# Altium footprint library CAN2XG.PcbLib: 27 footprints (part 2 of 2)
Each footprint in its own frame and in the unit in brackets; x right, y up, seen from the top. Pads: shape width x height; smd on the part's side, far side on the other; paste and mask are expansions set on the pad; w line width, h text height; cw(c..) or ccw(c..) is an arc to the next point about the centre after c.
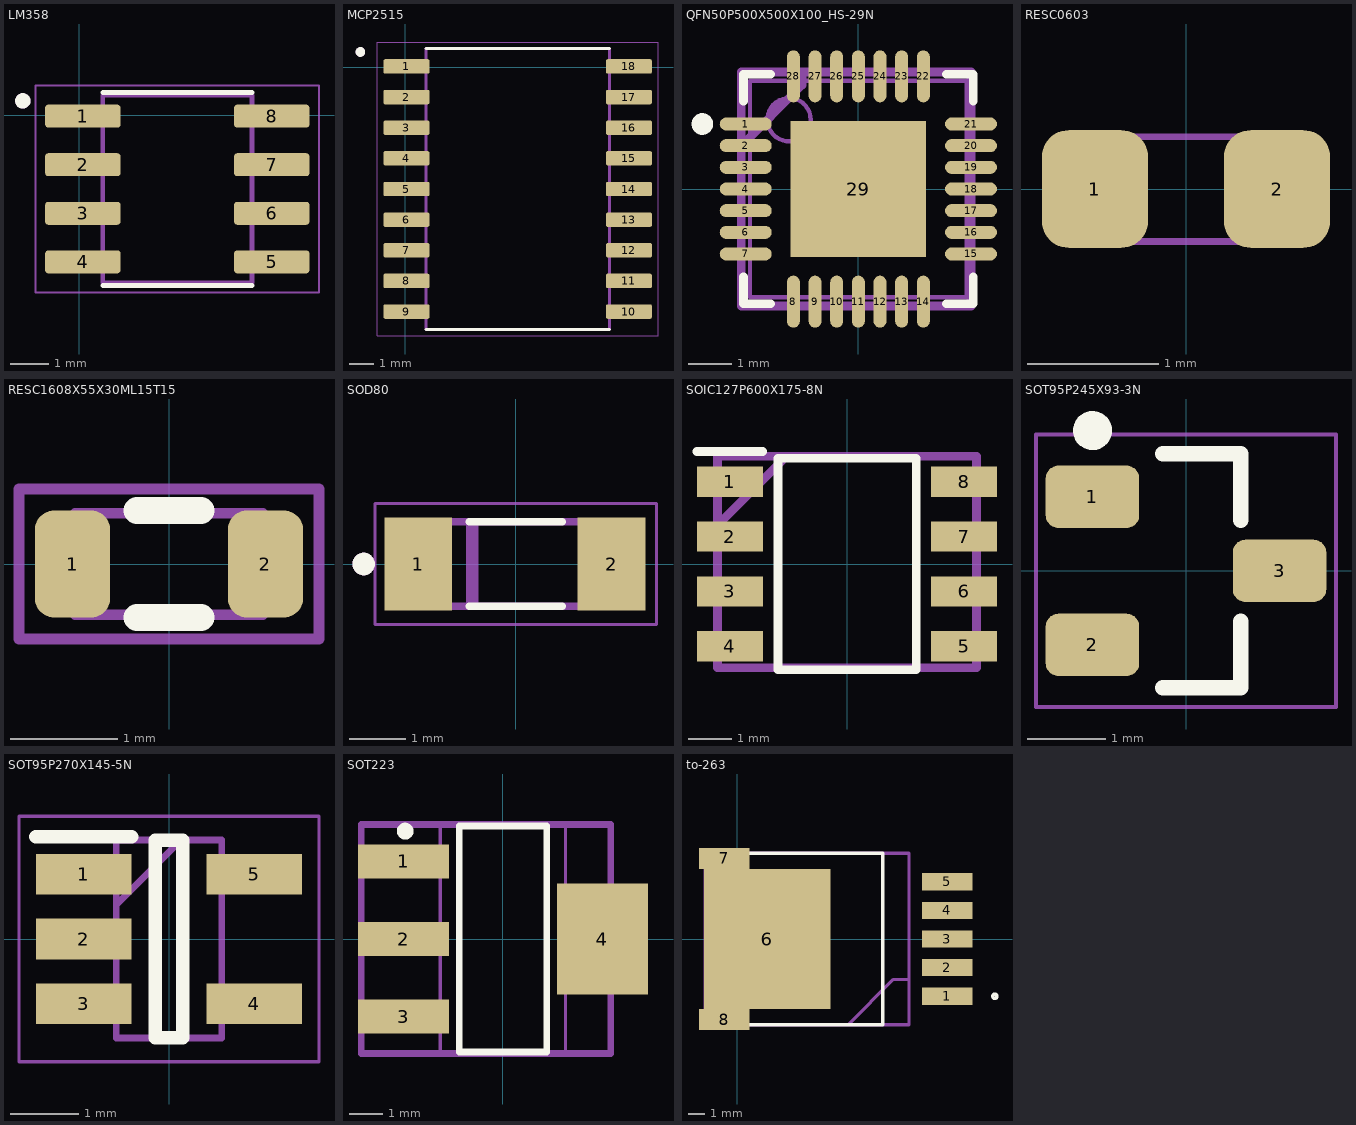
[diagram p1: the footprints below, top view; thin cyan lines are the x and y axes]

## LM358 [mm]
pads (8):
  rrect25% 1.97x0.6 smd: 1(0.098,-0.017) 2(0.098,-1.287) 3(0.098,-2.557) 4(0.098,-3.827) 5(5.038,-3.827) 6(5.038,-2.557) 7(5.038,-1.287) 8(5.038,-0.017)
Top Overlay:
  circle w0.2: c-1.472,0.383 r0.1
  lines w0.127: 0.618,-4.447 4.518,-4.447 ; 0.618,0.603 4.518,0.603
Top Assembly:
  circle w0.2: c-1.472,0.383 r0.1
  lines w0.127: 0.618,-4.375 0.618,0.53 4.518,0.53 4.518,-4.375 0.618,-4.375
Top Courtyard:
  lines w0.05: -1.137,-4.625 -1.137,0.78 6.273,0.78 6.273,-4.625 -1.137,-4.625
3D body "lm358mx.stp": height 1.65, standoff 0, extent -0.404,-4.39 5.596,0.53

## MCP2515 [mm]
pads (18):
  rrect25% 1.91x0.6 smd: 1(0.055,0.033) 2(0.055,-1.237) 3(0.055,-2.507) 4(0.055,-3.777) 5(0.055,-5.047) 6(0.055,-6.317) 7(0.055,-7.587) 8(0.055,-8.857) 9(0.055,-10.127) 10(9.275,-10.127) 11(9.275,-8.857) 12(9.275,-7.587) 13(9.275,-6.317) 14(9.275,-5.047) 15(9.275,-3.777) 16(9.275,-2.507) 17(9.275,-1.237) 18(9.275,0.033)
Top Overlay:
  circle w0.2: c-1.855,0.633 r0.1
  lines w0.127: 0.865,-10.872 8.465,-10.872 ; 0.865,0.778 8.465,0.778
Top Assembly:
  circle w0.2: c-1.855,0.633 r0.1
  lines w0.127: 0.865,-10.872 8.465,-10.872 8.465,0.778 0.865,0.778 0.865,-10.872
Top Courtyard:
  lines w0.05: -1.15,-11.122 10.48,-11.122 10.48,1.028 -1.15,1.028 -1.15,-11.122
3D body "MCP2515_SO.STEP": height 2.65, standoff 0, extent -0.451,-10.855 9.849,0.695

## QFN50P500X500X100_HS-29N [mm] "QFN, 28-Leads, Body 5.00x5.00mm, Pitch 0.50mm, Thermal Pad 3.13x3.13mm, IPC Medium Density"
height 1
pads (29):
  oval 1.2x0.3 smd: 1(-2.6,1.5) 2(-2.6,1) 3(-2.6,0.5) 4(-2.6,0) 5(-2.6,-0.5) 6(-2.6,-1) 7(-2.6,-1.5) 15(2.6,-1.5) 16(2.6,-1) 17(2.6,-0.5) 18(2.6,0) 19(2.6,0.5) 20(2.6,1) 21(2.6,1.5)
  oval 0.3x1.2 smd: 8(-1.5,-2.6) 9(-1,-2.6) 10(-0.5,-2.6) 11(0,-2.6) 12(0.5,-2.6) 13(1,-2.6) 14(1.5,-2.6) 22(1.5,2.6) 23(1,2.6) 24(0.5,2.6) 25(0,2.6) 26(-0.5,2.6) 27(-1,2.6) 28(-1.5,2.6)
  rect 3.13x3.13 smd: 29(0,0)
Top Overlay:
  circle w0.25: c-3.6,1.5 r0.125
  lines w0.2: -2.65,-2.025 -2.65,-2.65 -2.025,-2.65 ; -2.65,2.025 -2.65,2.65 -2.025,2.65 ; 2.025,-2.65 2.65,-2.65 2.65,-2.025 ; 2.025,2.65 2.65,2.65 2.65,2.025
Top Assembly:
  lines w0.2: -2.7,1 -1.3,2.4 -1.3,2.7 ; -2.7,-2.7 2.6,-2.7 2.6,2.7 -2.7,2.7 -2.7,-2.7
  text "'.Designator'" at -0.5,-0.8 h1.2
Top 3D Body:
  circle w0.1: c-1.6,1.6 r0.5
  lines w0.1: -2.5,-2.5 2.5,-2.5 2.5,2.5 -2.5,2.5 -2.5,-2.5
3D body "QFN50P500X500X100_HS-29N.step": height 0.9, standoff -0.1, extent -2.52,-2.52 2.52,2.52

## RESC0603 [mm]
pads (2):
  rrect50% 0.81x0.9 smd: 1(-0.695,0) 2(0.695,0)
Mechanical 13:
  lines w0.051: -0.8,-0.4 -0.8,0.4 0.8,0.4 0.8,-0.4 -0.8,-0.4
3D body "SMD R-0603.STEP": height 0.45, standoff -0.01, extent -0.8,-0.4 0.8,0.4

## RESC1608X55X30ML15T15 [mm] "Chip Resistor, 2-Leads, Body 1.60x0.80mm, IPC Low Density"
height 0.55
pads (2):
  rrect50% 0.7x1 smd: 1(-0.9,0) 2(0.9,0)
Top Overlay:
  lines w0.254: -0.3,-0.5 0.3,-0.5 ; -0.3,0.5 0.3,0.5
Top Assembly:
  lines w0.1: -1.4,-0.7 -1.4,0.7 1.4,0.7 1.4,-0.7 -1.4,-0.7
  text "'.Designator'" at -1.2,-0.4 h0.9
Top 3D Body:
  lines w0.1: -0.875,-0.475 -0.875,0.475 0.875,0.475 0.875,-0.475 -0.875,-0.475
3D body: height 0.55, standoff 0, extent -0.875,-0.475 -0.575,0.475
3D body: height 0.55, standoff 0, extent 0.575,-0.475 0.875,0.475
3D body: height 0.55, standoff 0, extent -0.575,-0.475 0.575,0.475

## SOD80 [mm] "5.1V Zener Diode"
pads (2):
  rect 1.2x1.65 smd: 1(-1.727,0) 2(1.702,0)
Top Overlay:
  circle w0.2: c-2.7,0 r0.1
  lines w0.127: -0.83,-0.75 0.83,-0.75 ; -0.83,0.75 0.83,0.75
Top Paste:
  region: 1.65,0.25 1.15,0.25 1.15,0.825 1.65,0.825
  region: 1.65,0.25 1.15,0.25 1.15,0.825 1.65,0.825
  region: 1.65,-0.825 1.15,-0.825 1.15,-0.25 1.65,-0.25
  region: -1.15,-0.825 -1.65,-0.825 -1.65,-0.25 -1.15,-0.25
  region: -1.15,-0.825 -1.65,-0.825 -1.65,-0.25 -1.15,-0.25
  region: -1.15,0.25 -1.65,0.25 -1.65,0.825 -1.15,0.825
Top Solder:
  region: 1.55,0.15 1.05,0.15 1.05,0.925 1.55,0.925
  region: 1.55,-0.925 1.05,-0.925 1.05,-0.15 1.55,-0.15
  region: -1.05,-0.925 -1.55,-0.925 -1.55,-0.15 -1.05,-0.15
  region: -1.05,0.15 -1.55,0.15 -1.55,0.925 -1.05,0.925
Top Assembly:
  circle w0.2: c-2.7,0 r0.1
  lines w0.127: -0.82,-0.75 -0.82,0.75 ; -0.72,-0.75 -0.72,0.75 ; -1.82,-0.75 1.82,-0.75 1.82,0.75 -1.82,0.75 -1.82,-0.75
Top Courtyard:
  lines w0.05: -2.5,-1.075 -2.5,1.075 2.5,1.075 2.5,-1.075 -2.5,-1.075
3D body "step_temp.STEP": height 1.49, standoff 0.01, extent -1.725,-0.75 1.725,0.75

## SOIC127P600X175-8N [mm] "SMD-SO-8"
height 12.93
pads (8):
  rect 1.525x0.7 smd: 1(-2.712,1.905) 2(-2.712,0.635) 3(-2.712,-0.635) 4(-2.712,-1.905) 5(2.712,-1.905) 6(2.712,-0.635) 7(2.712,0.635) 8(2.712,1.905)
Top Overlay:
  lines w0.2: -3.475,2.605 -1.95,2.605 ; -1.6,-2.45 -1.6,2.45 1.6,2.45 1.6,-2.45 -1.6,-2.45
Top Assembly:
  lines w0.2: -3,0.9 -1.5,2.4 -1.5,2.5 ; -3,-2.4 -3,2.5 3,2.5 3,-2.4 -3,-2.4
  text "'.Designator'" at -1.2,-0.5 h1.2
3D body "1EDI20N12AFXUMA1.stp": height 1.75, standoff 0, extent -3,-2.45 3,2.45

## SOT95P245X93-3N [mm] "SOT23, 3-Leads, Body 2.92x2.45mm, Pitch 0.95mm, IPC Medium Density"
height 0.93
pads (3):
  rrect40% 1.2x0.8 smd: 1(-1.2,0.95) 2(-1.2,-0.95) 3(1.2,0)
Top Overlay:
  circle w0.25: c-1.2,1.8 r0.125
  lines w0.2: -0.3,-1.5 0.7,-1.5 0.7,-0.65 ; -0.3,1.5 0.7,1.5 0.7,0.65
Top Assembly:
  lines w0.05: -1.925,-1.75 -1.925,1.75 1.925,1.75 1.925,-1.75 -1.925,-1.75
  text "'.Designator'" at -1,0 h2
3D body "SOT95P245X93-3N.step": height 0.93, standoff 0, extent -1.3,-1.51 1.3,1.51

## SOT95P270X145-5N [mm]
pads (5):
  rect 1.4x0.6 smd: 1(-1.25,0.95) 2(-1.25,0) 3(-1.25,-0.95) 4(1.25,-0.95) 5(1.25,0.95)
Top Overlay:
  lines w0.2: -1.95,1.5 -0.55,1.5 ; -0.2,-1.45 0.2,-1.45 0.2,1.45 -0.2,1.45 -0.2,-1.45
Mechanical 15:
  lines w0.1: -0.775,0.5 0.175,1.45 ; -0.775,-1.45 0.775,-1.45 0.775,1.45 -0.775,1.45 -0.775,-1.45
Mechanical 20:
  lines w0.05: -2.2,-1.8 2.2,-1.8 2.2,1.8 -2.2,1.8 -2.2,-1.8
3D body "MCP1802T-3302I_OT.stp": height 1.45, standoff 0, extent -1.384,-1.463 1.316,1.437

## SOT223 [mm] "SOT223, 4-Leads, Body 6.5x3.5mm, Pitch 2.3mm, Lead Span 7mm, IPC Low Density"
height 1.8
pads (4):
  rect 2.7x1 smd: 1(-2.95,2.3) 2(-2.95,0) 3(-2.95,-2.3)
  rect 2.7x3.3 smd: 4(2.95,0)
Top Overlay:
  circle w0.25: c-2.9,3.2 r0.125
  lines w0.2: -1.3,-3.35 1.3,-3.35 1.3,3.35 -1.3,3.35 -1.3,-3.35
Top Assembly:
  lines w0.2: -4.2,-3.4 3.2,-3.4 3.2,3.4 -4.2,3.4 -4.2,-3.4
  text "'.Designator'" at 0.3,-0.7 h1.2
Top 3D Body:
  lines w0.1: -1.855,-3.35 1.855,-3.35 1.855,3.35 -1.855,3.35 -1.855,-3.35
3D body "CircuitWorks-SOT-223.step": height 1.7, standoff 0.02, extent -3.48,-3.25 3.48,3.25

## to-263 [mm]
height 5
pads (8):
  rect 3x1.02 smd: 1(12.461,-3.4) 2(12.461,-1.7) 3(12.461,0) 4(12.461,1.7) 5(12.461,3.4)
  rect 7.5x8.33 smd: 6(1.786,0)
  rect 3x1.235 smd: 7(-0.754,4.782) 8(-0.754,-4.782)
Top Overlay:
  circle w0.2: c15.3,-3.4 r0.126
  lines w0.2: 0.756,-5.08 8.64,-5.08 8.64,5.08 0.756,5.08
Top Assembly:
  lines w0.2: 6.6,-5.08 9.28,-2.4 10.2,-2.4 ; -1.9,-5.08 10.2,-5.08 10.2,5.08 -1.9,5.08 -1.9,-5.08
  text "'.Designator'" at 4.2,-0.6 h1.5
3D body "User Library-TO263-5.STEP": height 4.78, standoff -0.02, extent -1.8,-5 13.87,5